# Altium integrated library Microchip PIC16 Part 1.IntLib: 1800 symbols (part 64 of 93)
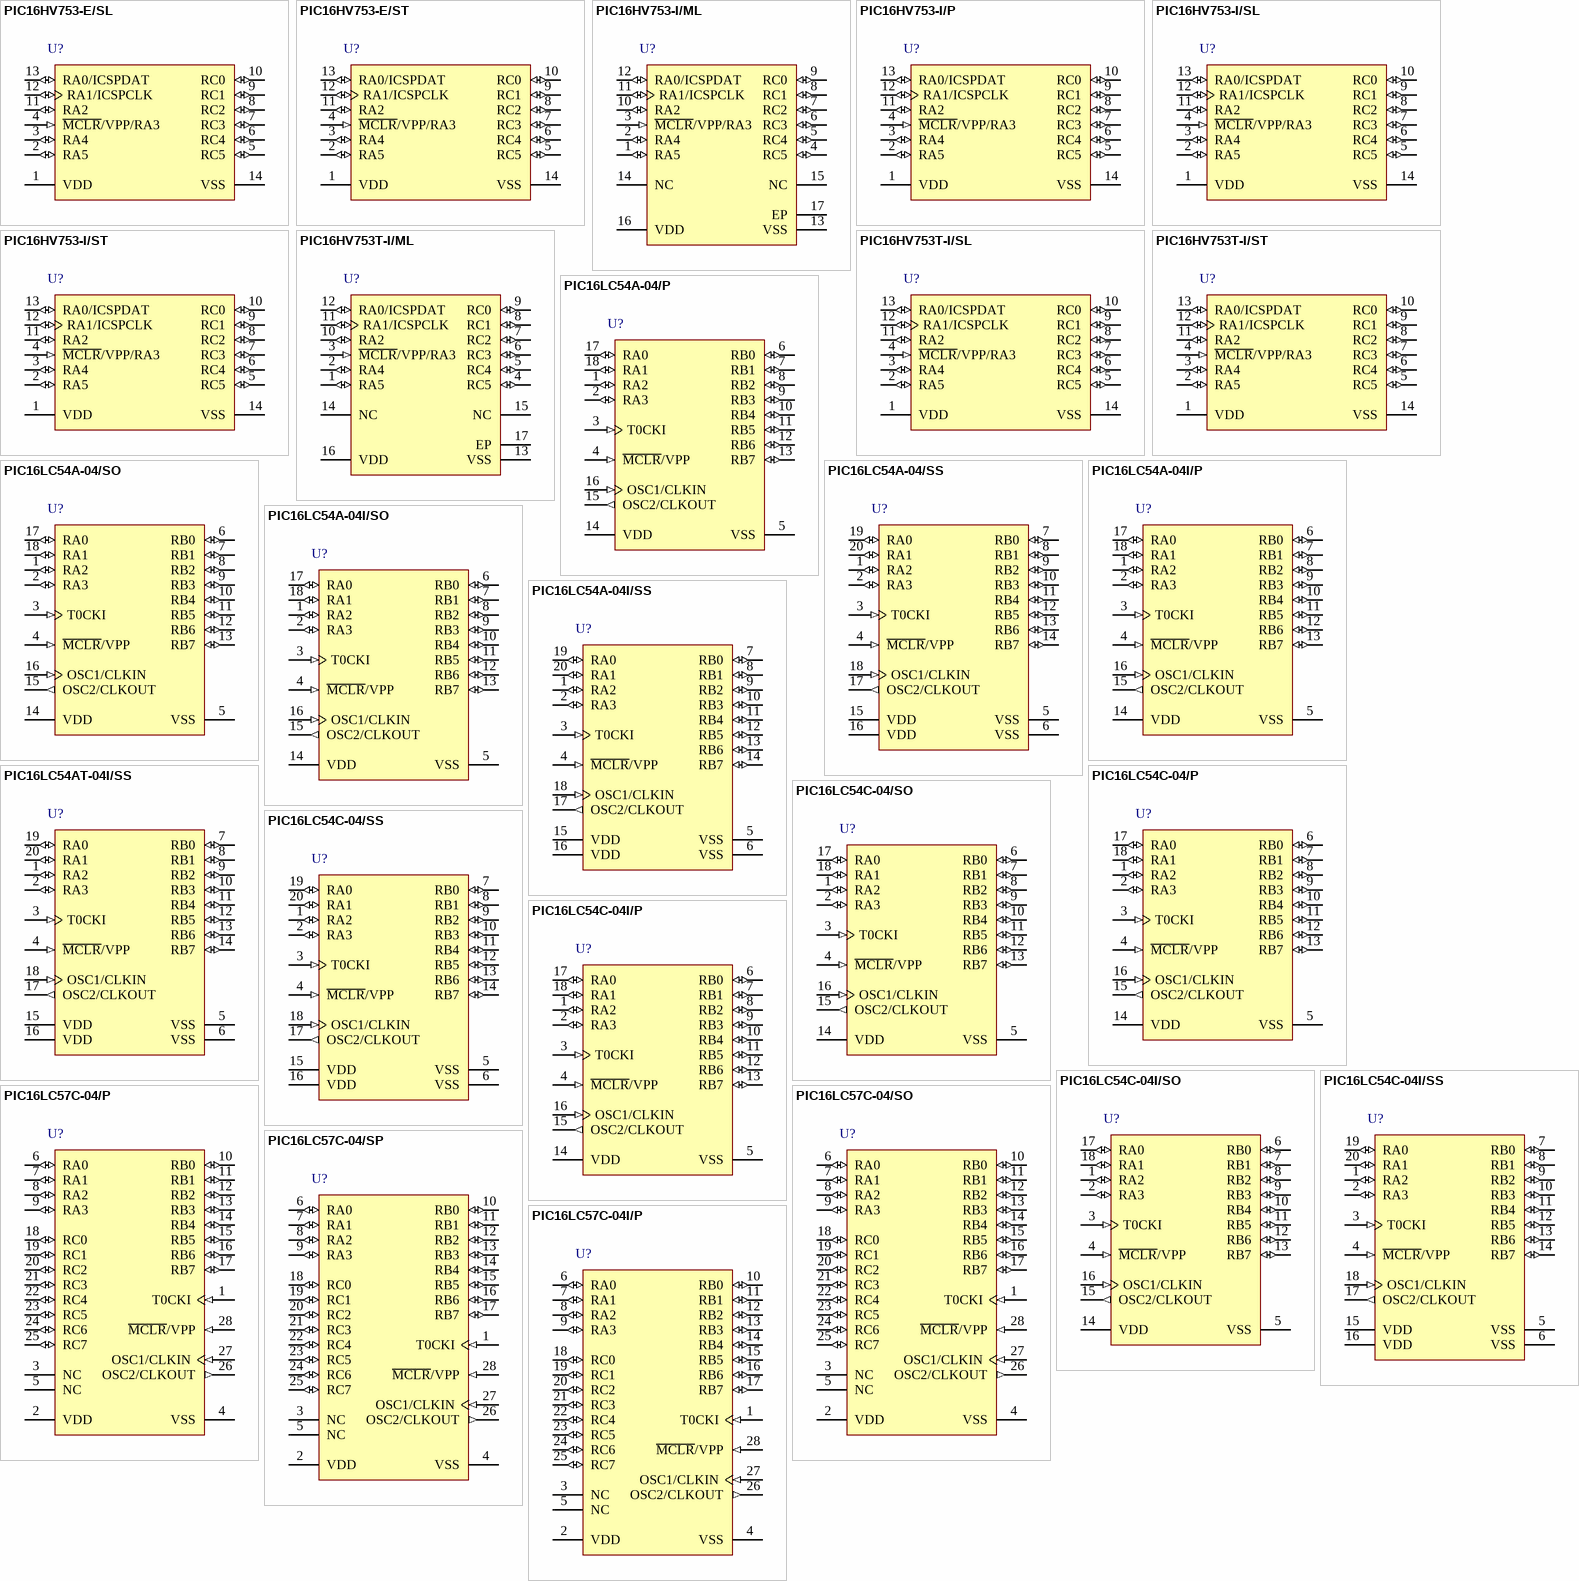
[diagram p162: symbols PIC16HV753-E/SL to PIC16LC57C-04I/P]

## PIC16LC54A-04/P
designator U?
EPROM / ROM-Based 8-Bit CMOS Microcontroller Series, 4 MHz, 12 I/O, 0 to 70 degC, 18-pin PDIP (P18), Tube; Manufacturer: Microchip; PartNumber: PIC16LC54A-04/P; Digital Communication: 0 -UART, 0 -A/E/USART, 0 -SPI, 0 -I2C; I/O Pins: 12; Max. CPU Speed MHz: 4; Memory Type: OTP; Operation Voltage Range: 3V - 6.25V; Program Memory KBytes: 0.75; Program Memory KWords: 0.5; RAM: 25; Timers: 1 - 8-bit, 0 - 16-bit, 0 - 32-bit; DatasheetVersion: Rev. KE; PackageVersion: C04-007B, 12/2012; PackageReference: PDIP-P18; PackageDescription: 18-Lead Plastic Dual In-Line, Row Spacing 7.62 mm, 22.86 x 6.6 mm Body, 2.54 mm Pitch; Supplier 1: Digi-Key; Supplier Part Number 1: PIC16LC54A-04/P-ND; Supplier 2: Mouser; Supplier Part Number 2: 579-PIC16LC54A-04/P; Packing: TUBE; Mounting Technology: Through Hole; ComponentLink1Description: Datasheet; ComponentLink1URL: http://ww1.microchip.com/downloads/en/DeviceDoc/30453E.pdf; ComponentLink2Description: Package Specification; ComponentLink2URL: http://www.microchip.com/stellent/groups/techpub_sg/documents/packagingspec/en012702.pdf; ComponentLink3Description: URL Link1; ComponentLink3URL: Product URL:http://www.microchip.com/datasheet/PIC16C54A
footprint MCHP-PDIP-P18 (DIP, 18-Leads, Body 22.83x6.604mm, Pitch 2.54mm)
pins: 1 RA2 (io) "Bi-directional I/O port", 2 RA3 (io) "Bi-directional I/O port", 3 T0CKI (in) "Clock input to Timer0. Must be tied to VSS or VDD, if not in use, to reduce current consumption.", 4 ~{MCLR}/VPP (in), 5 VSS (power) "Ground reference for logic and I/O pins.", 6 RB0 (io) "Bi-directional I/O port", 7 RB1 (io) "Bi-directional I/O port", 8 RB2 (io) "Bi-directional I/O port", 9 RB3 (io) "Bi-directional I/O port", 10 RB4 (io) "Bi-directional I/O port", 11 RB5 (io) "Bi-directional I/O port", 12 RB6 (io) "Bi-directional I/O port", 13 RB7 (io) "Bi-directional I/O port", 14 VDD (power) "Positive supply for logic and I/O pins.", 15 OSC2/CLKOUT (out), 16 OSC1/CLKIN (in), 17 RA0 (io) "Bi-directional I/O port", 18 RA1 (io) "Bi-directional I/O port"

## PIC16LC54A-04/SO
designator U?
EPROM / ROM-Based 8-Bit CMOS Microcontroller Series, 4 MHz, 12 I/O, 0 to 70 degC, 18-pin SOIC (SO18), Tube; Manufacturer: Microchip; PartNumber: PIC16LC54A-04/SO; Digital Communication: 0 -UART, 0 -A/E/USART, 0 -SPI, 0 -I2C; I/O Pins: 12; Max. CPU Speed MHz: 4; Memory Type: OTP; Operation Voltage Range: 3V - 6.25V; Program Memory KBytes: 0.75; Program Memory KWords: 0.5; RAM: 25; Timers: 1 - 8-bit, 0 - 16-bit, 0 - 32-bit; DatasheetVersion: Rev. KE; PackageVersion: C04-051C, 12/2012; PackageReference: SOIC-SO18; PackageDescription: 18-Lead Plastic Small Outline, 7.5 x 11.55 mm Body, 1.27 mm Pitch; Supplier 1: Digi-Key; Supplier Part Number 1: PIC16LC54A-04/SO-ND; Supplier 2: Mouser; Supplier Part Number 2: 579-PIC16LC54A-04/SO; Packing: TUBE; Mounting Technology: Surface Mount; ComponentLink1Description: Datasheet; ComponentLink1URL: http://ww1.microchip.com/downloads/en/DeviceDoc/30453E.pdf; ComponentLink2Description: Package Specification; ComponentLink2URL: http://www.microchip.com/stellent/groups/techpub_sg/documents/packagingspec/en012702.pdf; ComponentLink3Description: URL Link1; ComponentLink3URL: Product URL:http://www.microchip.com/datasheet/PIC16C54A
footprint MCHP-SOIC-SO18_N (SOIC, 18-Leads, Body 11.55x7.5mm, Pitch 1.27mm, IPC Medium Density)
footprint MCHP-SOIC-SO18_L (SOIC, 18-Leads, Body 11.55x7.5mm, Pitch 1.27mm, IPC High Density)
footprint MCHP-SOIC-SO18_M (SOIC, 18-Leads, Body 11.55x7.5mm, Pitch 1.27mm, IPC Low Density)
pins: 1 RA2 (io) "Bi-directional I/O port", 2 RA3 (io) "Bi-directional I/O port", 3 T0CKI (in) "Clock input to Timer0. Must be tied to VSS or VDD, if not in use, to reduce current consumption.", 4 ~{MCLR}/VPP (in), 5 VSS (power) "Ground reference for logic and I/O pins.", 6 RB0 (io) "Bi-directional I/O port", 7 RB1 (io) "Bi-directional I/O port", 8 RB2 (io) "Bi-directional I/O port", 9 RB3 (io) "Bi-directional I/O port", 10 RB4 (io) "Bi-directional I/O port", 11 RB5 (io) "Bi-directional I/O port", 12 RB6 (io) "Bi-directional I/O port", 13 RB7 (io) "Bi-directional I/O port", 14 VDD (power) "Positive supply for logic and I/O pins.", 15 OSC2/CLKOUT (out), 16 OSC1/CLKIN (in), 17 RA0 (io) "Bi-directional I/O port", 18 RA1 (io) "Bi-directional I/O port"

## PIC16LC54A-04/SS
designator U?
EPROM / ROM-Based 8-Bit CMOS Microcontroller Series, 4 MHz, 12 I/O, 0 to 70 degC, 20-pin SSOP-SS (20), Tube; Manufacturer: Microchip; PartNumber: PIC16LC54A-04/SS; Digital Communication: 0 -UART, 0 -A/E/USART, 0 -SPI, 0 -I2C; I/O Pins: 12; Max. CPU Speed MHz: 4; Memory Type: OTP; Operation Voltage Range: 3V - 6.25V; Program Memory KBytes: 0.75; Program Memory KWords: 0.5; RAM: 25; Timers: 1 - 8-bit, 0 - 16-bit, 0 - 32-bit; DatasheetVersion: Rev. KE; PackageVersion: C04-072B, 12/2012; PackageReference: SSOP-SS20; PackageDescription: 20-Lead Plastic Shrink Small Outline, 5.3 x 7.2 mm Body, 0.65 mm Pitch; Supplier 1: Digi-Key; Supplier Part Number 1: PIC16LC54A-04/SS-ND; Supplier 2: Mouser; Supplier Part Number 2: 579-PIC16LC54A-04/SS; Packing: TUBE; Mounting Technology: Surface Mount; ComponentLink1Description: Datasheet; ComponentLink1URL: http://ww1.microchip.com/downloads/en/DeviceDoc/30453E.pdf; ComponentLink2Description: Package Specification; ComponentLink2URL: http://www.microchip.com/stellent/groups/techpub_sg/documents/packagingspec/en012702.pdf; ComponentLink3Description: URL Link1; ComponentLink3URL: Product URL:http://www.microchip.com/datasheet/PIC16C54A
footprint MCHP-SSOP-SS20_N (SOP, 20-Leads, Body 7.2x5.3mm, Pitch 0.65mm, IPC Medium Density)
footprint MCHP-SSOP-SS20_L (SOP, 20-Leads, Body 7.2x5.3mm, Pitch 0.65mm, IPC High Density)
footprint MCHP-SSOP-SS20_M (SOP, 20-Leads, Body 7.2x5.3mm, Pitch 0.65mm, IPC Low Density)
pins: 1 RA2 (io) "Bi-directional I/O port", 2 RA3 (io) "Bi-directional I/O port", 3 T0CKI (in) "Clock input to Timer0. Must be tied to VSS or VDD, if not in use, to reduce current consumption.", 4 ~{MCLR}/VPP (in), 5 VSS (power) "Ground reference for logic and I/O pins.", 6 VSS (power) "Ground reference for logic and I/O pins.", 7 RB0 (io) "Bi-directional I/O port", 8 RB1 (io) "Bi-directional I/O port", 9 RB2 (io) "Bi-directional I/O port", 10 RB3 (io) "Bi-directional I/O port", 11 RB4 (io) "Bi-directional I/O port", 12 RB5 (io) "Bi-directional I/O port", 13 RB6 (io) "Bi-directional I/O port", 14 RB7 (io) "Bi-directional I/O port", 15 VDD (power) "Positive supply for logic and I/O pins.", 16 VDD (power) "Positive supply for logic and I/O pins.", 17 OSC2/CLKOUT (out), 18 OSC1/CLKIN (in), 19 RA0 (io) "Bi-directional I/O port", 20 RA1 (io) "Bi-directional I/O port"

## PIC16LC54A-04I/P
designator U?
EPROM / ROM-Based 8-Bit CMOS Microcontroller Series, 4 MHz, 12 I/O, -40 to 85 degC, 18-pin PDIP (P18), Tube; Manufacturer: Microchip; PartNumber: PIC16LC54A-04I/P; Digital Communication: 0 -UART, 0 -A/E/USART, 0 -SPI, 0 -I2C; I/O Pins: 12; Max. CPU Speed MHz: 4; Memory Type: OTP; Operation Voltage Range: 3V - 6.25V; Program Memory KBytes: 0.75; Program Memory KWords: 0.5; RAM: 25; Timers: 1 - 8-bit, 0 - 16-bit, 0 - 32-bit; DatasheetVersion: Rev. KE; PackageVersion: C04-007B, 12/2012; PackageReference: PDIP-P18; PackageDescription: 18-Lead Plastic Dual In-Line, Row Spacing 7.62 mm, 22.86 x 6.6 mm Body, 2.54 mm Pitch; Supplier 1: Digi-Key; Supplier Part Number 1: PIC16LC54A-04I/P-ND; Supplier 2: Newark; Supplier Part Number 2: 23C5166; Supplier 3: Mouser; Supplier Part Number 3: 579-PIC16LC54A-04I/P; Packing: TUBE; Mounting Technology: Through Hole; ComponentLink1Description: Datasheet; ComponentLink1URL: http://ww1.microchip.com/downloads/en/DeviceDoc/30453E.pdf; ComponentLink2Description: Package Specification; ComponentLink2URL: http://www.microchip.com/stellent/groups/techpub_sg/documents/packagingspec/en012702.pdf; ComponentLink3Description: URL Link1; ComponentLink3URL: Product URL:http://www.microchip.com/datasheet/PIC16C54A
footprint MCHP-PDIP-P18 (DIP, 18-Leads, Body 22.83x6.604mm, Pitch 2.54mm)
pins: 1 RA2 (io) "Bi-directional I/O port", 2 RA3 (io) "Bi-directional I/O port", 3 T0CKI (in) "Clock input to Timer0. Must be tied to VSS or VDD, if not in use, to reduce current consumption.", 4 ~{MCLR}/VPP (in), 5 VSS (power) "Ground reference for logic and I/O pins.", 6 RB0 (io) "Bi-directional I/O port", 7 RB1 (io) "Bi-directional I/O port", 8 RB2 (io) "Bi-directional I/O port", 9 RB3 (io) "Bi-directional I/O port", 10 RB4 (io) "Bi-directional I/O port", 11 RB5 (io) "Bi-directional I/O port", 12 RB6 (io) "Bi-directional I/O port", 13 RB7 (io) "Bi-directional I/O port", 14 VDD (power) "Positive supply for logic and I/O pins.", 15 OSC2/CLKOUT (out), 16 OSC1/CLKIN (in), 17 RA0 (io) "Bi-directional I/O port", 18 RA1 (io) "Bi-directional I/O port"

## PIC16LC54A-04I/SO
designator U?
EPROM / ROM-Based 8-Bit CMOS Microcontroller Series, 4 MHz, 12 I/O, -40 to 85 degC, 18-pin SOIC (SO18), Tube; Manufacturer: Microchip; PartNumber: PIC16LC54A-04I/SO; Digital Communication: 0 -UART, 0 -A/E/USART, 0 -SPI, 0 -I2C; I/O Pins: 12; Max. CPU Speed MHz: 4; Memory Type: OTP; Operation Voltage Range: 3V - 6.25V; Program Memory KBytes: 0.75; Program Memory KWords: 0.5; RAM: 25; Timers: 1 - 8-bit, 0 - 16-bit, 0 - 32-bit; DatasheetVersion: Rev. KE; PackageVersion: C04-051C, 12/2012; PackageReference: SOIC-SO18; PackageDescription: 18-Lead Plastic Small Outline, 7.5 x 11.55 mm Body, 1.27 mm Pitch; Supplier 1: Digi-Key; Supplier Part Number 1: PIC16LC54A-04I/SO-ND; Supplier 2: Mouser; Supplier Part Number 2: 579-16LC54A-04I/SO; Packing: TUBE; Mounting Technology: Surface Mount; ComponentLink1Description: Datasheet; ComponentLink1URL: http://ww1.microchip.com/downloads/en/DeviceDoc/30453E.pdf; ComponentLink2Description: Package Specification; ComponentLink2URL: http://www.microchip.com/stellent/groups/techpub_sg/documents/packagingspec/en012702.pdf; ComponentLink3Description: URL Link1; ComponentLink3URL: Product URL:http://www.microchip.com/datasheet/PIC16C54A
footprint MCHP-SOIC-SO18_N (SOIC, 18-Leads, Body 11.55x7.5mm, Pitch 1.27mm, IPC Medium Density)
footprint MCHP-SOIC-SO18_L (SOIC, 18-Leads, Body 11.55x7.5mm, Pitch 1.27mm, IPC High Density)
footprint MCHP-SOIC-SO18_M (SOIC, 18-Leads, Body 11.55x7.5mm, Pitch 1.27mm, IPC Low Density)
pins: 1 RA2 (io) "Bi-directional I/O port", 2 RA3 (io) "Bi-directional I/O port", 3 T0CKI (in) "Clock input to Timer0. Must be tied to VSS or VDD, if not in use, to reduce current consumption.", 4 ~{MCLR}/VPP (in), 5 VSS (power) "Ground reference for logic and I/O pins.", 6 RB0 (io) "Bi-directional I/O port", 7 RB1 (io) "Bi-directional I/O port", 8 RB2 (io) "Bi-directional I/O port", 9 RB3 (io) "Bi-directional I/O port", 10 RB4 (io) "Bi-directional I/O port", 11 RB5 (io) "Bi-directional I/O port", 12 RB6 (io) "Bi-directional I/O port", 13 RB7 (io) "Bi-directional I/O port", 14 VDD (power) "Positive supply for logic and I/O pins.", 15 OSC2/CLKOUT (out), 16 OSC1/CLKIN (in), 17 RA0 (io) "Bi-directional I/O port", 18 RA1 (io) "Bi-directional I/O port"

## PIC16LC54A-04I/SS
designator U?
EPROM / ROM-Based 8-Bit CMOS Microcontroller Series, 4 MHz, 12 I/O, -40 to 85 degC, 20-pin SSOP-SS (20), Tube; Manufacturer: Microchip; PartNumber: PIC16LC54A-04I/SS; Digital Communication: 0 -UART, 0 -A/E/USART, 0 -SPI, 0 -I2C; I/O Pins: 12; Max. CPU Speed MHz: 4; Memory Type: OTP; Operation Voltage Range: 3V - 6.25V; Program Memory KBytes: 0.75; Program Memory KWords: 0.5; RAM: 25; Timers: 1 - 8-bit, 0 - 16-bit, 0 - 32-bit; DatasheetVersion: Rev. KE; PackageVersion: C04-072B, 12/2012; PackageReference: SSOP-SS20; PackageDescription: 20-Lead Plastic Shrink Small Outline, 5.3 x 7.2 mm Body, 0.65 mm Pitch; Supplier 1: Digi-Key; Supplier Part Number 1: PIC16LC54A-04I/SS-ND; Supplier 2: Mouser; Supplier Part Number 2: 579-16LC54A-04I/SS; Packing: TUBE; Mounting Technology: Surface Mount; ComponentLink1Description: Datasheet; ComponentLink1URL: http://ww1.microchip.com/downloads/en/DeviceDoc/30453E.pdf; ComponentLink2Description: Package Specification; ComponentLink2URL: http://www.microchip.com/stellent/groups/techpub_sg/documents/packagingspec/en012702.pdf; ComponentLink3Description: URL Link1; ComponentLink3URL: Product URL:http://www.microchip.com/datasheet/PIC16C54A
footprint MCHP-SSOP-SS20_N (SOP, 20-Leads, Body 7.2x5.3mm, Pitch 0.65mm, IPC Medium Density)
footprint MCHP-SSOP-SS20_L (SOP, 20-Leads, Body 7.2x5.3mm, Pitch 0.65mm, IPC High Density)
footprint MCHP-SSOP-SS20_M (SOP, 20-Leads, Body 7.2x5.3mm, Pitch 0.65mm, IPC Low Density)
pins: 1 RA2 (io) "Bi-directional I/O port", 2 RA3 (io) "Bi-directional I/O port", 3 T0CKI (in) "Clock input to Timer0. Must be tied to VSS or VDD, if not in use, to reduce current consumption.", 4 ~{MCLR}/VPP (in), 5 VSS (power) "Ground reference for logic and I/O pins.", 6 VSS (power) "Ground reference for logic and I/O pins.", 7 RB0 (io) "Bi-directional I/O port", 8 RB1 (io) "Bi-directional I/O port", 9 RB2 (io) "Bi-directional I/O port", 10 RB3 (io) "Bi-directional I/O port", 11 RB4 (io) "Bi-directional I/O port", 12 RB5 (io) "Bi-directional I/O port", 13 RB6 (io) "Bi-directional I/O port", 14 RB7 (io) "Bi-directional I/O port", 15 VDD (power) "Positive supply for logic and I/O pins.", 16 VDD (power) "Positive supply for logic and I/O pins.", 17 OSC2/CLKOUT (out), 18 OSC1/CLKIN (in), 19 RA0 (io) "Bi-directional I/O port", 20 RA1 (io) "Bi-directional I/O port"

## PIC16LC54AT-04I/SS
designator U?
EPROM / ROM-Based 8-Bit CMOS Microcontroller Series, 4 MHz, 12 I/O, -40 to 85 degC, 20-pin SSOP-SS (20), Tape and Reel; Manufacturer: Microchip; PartNumber: PIC16LC54AT-04I/SS; Digital Communication: 0 -UART, 0 -A/E/USART, 0 -SPI, 0 -I2C; I/O Pins: 12; Max. CPU Speed MHz: 4; Memory Type: OTP; Operation Voltage Range: 3V - 6.25V; Packing: T/R; Program Memory KBytes: 0.75; Program Memory KWords: 0.5; RAM: 25; Timers: 1 - 8-bit, 0 - 16-bit, 0 - 32-bit; DatasheetVersion: Rev. KE; PackageVersion: C04-072B, 12/2012; PackageReference: SSOP-SS20; PackageDescription: 20-Lead Plastic Shrink Small Outline, 5.3 x 7.2 mm Body, 0.65 mm Pitch; Supplier 1: Digi-Key; Supplier Part Number 1: PIC16LC54AT-04ISS-ND; Supplier 2: Mouser; Supplier Part Number 2: 579-16LC54AT-04I/SS; Mounting Technology: Surface Mount; ComponentLink1Description: Datasheet; ComponentLink1URL: http://ww1.microchip.com/downloads/en/DeviceDoc/30453E.pdf; ComponentLink2Description: Package Specification; ComponentLink2URL: http://www.microchip.com/stellent/groups/techpub_sg/documents/packagingspec/en012702.pdf; ComponentLink3Description: URL Link1; ComponentLink3URL: Product URL:http://www.microchip.com/datasheet/PIC16C54A
footprint MCHP-SSOP-SS20_N (SOP, 20-Leads, Body 7.2x5.3mm, Pitch 0.65mm, IPC Medium Density)
footprint MCHP-SSOP-SS20_L (SOP, 20-Leads, Body 7.2x5.3mm, Pitch 0.65mm, IPC High Density)
footprint MCHP-SSOP-SS20_M (SOP, 20-Leads, Body 7.2x5.3mm, Pitch 0.65mm, IPC Low Density)
pins: 1 RA2 (io) "Bi-directional I/O port", 2 RA3 (io) "Bi-directional I/O port", 3 T0CKI (in) "Clock input to Timer0. Must be tied to VSS or VDD, if not in use, to reduce current consumption.", 4 ~{MCLR}/VPP (in), 5 VSS (power) "Ground reference for logic and I/O pins.", 6 VSS (power) "Ground reference for logic and I/O pins.", 7 RB0 (io) "Bi-directional I/O port", 8 RB1 (io) "Bi-directional I/O port", 9 RB2 (io) "Bi-directional I/O port", 10 RB3 (io) "Bi-directional I/O port", 11 RB4 (io) "Bi-directional I/O port", 12 RB5 (io) "Bi-directional I/O port", 13 RB6 (io) "Bi-directional I/O port", 14 RB7 (io) "Bi-directional I/O port", 15 VDD (power) "Positive supply for logic and I/O pins.", 16 VDD (power) "Positive supply for logic and I/O pins.", 17 OSC2/CLKOUT (out), 18 OSC1/CLKIN (in), 19 RA0 (io) "Bi-directional I/O port", 20 RA1 (io) "Bi-directional I/O port"

## PIC16LC54C-04/P
designator U?
EPROM / ROM-Based 8-Bit CMOS Microcontroller Series, 4 MHz, 12 I/O, 0 to 70 degC, 18-pin PDIP (P18), Tube; Manufacturer: Microchip; PartNumber: PIC16LC54C-04/P; Digital Communication: 0 -UART, 0 -A/E/USART, 0 -SPI, 0 -I2C; I/O Pins: 12; Max. CPU Speed MHz: 4; Memory Type: OTP; Operation Voltage Range: 2.5V - 5.5V; Program Memory KBytes: 0.75; Program Memory KWords: 0.5; RAM: 25; Timers: 1 - 8-bit; DatasheetVersion: Rev. KE; PackageVersion: C04-007B, 12/2012; PackageReference: PDIP-P18; PackageDescription: 18-Lead Plastic Dual In-Line, Row Spacing 7.62 mm, 22.86 x 6.6 mm Body, 2.54 mm Pitch; Supplier 1: Digi-Key; Supplier Part Number 1: PIC16LC54C-04/P-ND; Supplier 2: Farnell; Supplier Part Number 2: 1084284; Supplier 3: Mouser; Supplier Part Number 3: 579-PIC16LC54C-04/P; Packing: TUBE; Mounting Technology: Through Hole; ComponentLink1Description: Datasheet; ComponentLink1URL: http://ww1.microchip.com/downloads/en/DeviceDoc/30453E.pdf; ComponentLink2Description: Package Specification; ComponentLink2URL: http://www.microchip.com/stellent/groups/techpub_sg/documents/packagingspec/en012702.pdf; ComponentLink3Description: URL Link1; ComponentLink3URL: Product URL:http://www.microchip.com/datasheet/PIC16C54C
footprint MCHP-PDIP-P18 (DIP, 18-Leads, Body 22.83x6.604mm, Pitch 2.54mm)
pins: 1 RA2 (io) "Bi-directional I/O port", 2 RA3 (io) "Bi-directional I/O port", 3 T0CKI (in) "Clock input to Timer0. Must be tied to VSS or VDD, if not in use, to reduce current consumption.", 4 ~{MCLR}/VPP (in), 5 VSS (power) "Ground reference for logic and I/O pins.", 6 RB0 (io) "Bi-directional I/O port", 7 RB1 (io) "Bi-directional I/O port", 8 RB2 (io) "Bi-directional I/O port", 9 RB3 (io) "Bi-directional I/O port", 10 RB4 (io) "Bi-directional I/O port", 11 RB5 (io) "Bi-directional I/O port", 12 RB6 (io) "Bi-directional I/O port", 13 RB7 (io) "Bi-directional I/O port", 14 VDD (power) "Positive supply for logic and I/O pins.", 15 OSC2/CLKOUT (out), 16 OSC1/CLKIN (in), 17 RA0 (io) "Bi-directional I/O port", 18 RA1 (io) "Bi-directional I/O port"

## PIC16LC54C-04/SO
designator U?
EPROM / ROM-Based 8-Bit CMOS Microcontroller Series, 4 MHz, 12 I/O, 0 to 70 degC, 18-pin SOIC (SO18), Tube; Manufacturer: Microchip; PartNumber: PIC16LC54C-04/SO; Digital Communication: 0 -UART, 0 -A/E/USART, 0 -SPI, 0 -I2C; I/O Pins: 12; Max. CPU Speed MHz: 4; Memory Type: OTP; Operation Voltage Range: 2.5V - 5.5V; Program Memory KBytes: 0.75; Program Memory KWords: 0.5; RAM: 25; Timers: 1 - 8-bit; DatasheetVersion: Rev. KE; PackageVersion: C04-051C, 12/2012; PackageReference: SOIC-SO18; PackageDescription: 18-Lead Plastic Small Outline, 7.5 x 11.55 mm Body, 1.27 mm Pitch; Supplier 1: Digi-Key; Supplier Part Number 1: PIC16LC54C-04/SO-ND; Supplier 2: Mouser; Supplier Part Number 2: 579-PIC16LC54C-04/SO; Packing: TUBE; Mounting Technology: Surface Mount; ComponentLink1Description: Datasheet; ComponentLink1URL: http://ww1.microchip.com/downloads/en/DeviceDoc/30453E.pdf; ComponentLink2Description: Package Specification; ComponentLink2URL: http://www.microchip.com/stellent/groups/techpub_sg/documents/packagingspec/en012702.pdf; ComponentLink3Description: URL Link1; ComponentLink3URL: Product URL:http://www.microchip.com/datasheet/PIC16C54C
footprint MCHP-SOIC-SO18_N (SOIC, 18-Leads, Body 11.55x7.5mm, Pitch 1.27mm, IPC Medium Density)
footprint MCHP-SOIC-SO18_L (SOIC, 18-Leads, Body 11.55x7.5mm, Pitch 1.27mm, IPC High Density)
footprint MCHP-SOIC-SO18_M (SOIC, 18-Leads, Body 11.55x7.5mm, Pitch 1.27mm, IPC Low Density)
pins: 1 RA2 (io) "Bi-directional I/O port", 2 RA3 (io) "Bi-directional I/O port", 3 T0CKI (in) "Clock input to Timer0. Must be tied to VSS or VDD, if not in use, to reduce current consumption.", 4 ~{MCLR}/VPP (in), 5 VSS (power) "Ground reference for logic and I/O pins.", 6 RB0 (io) "Bi-directional I/O port", 7 RB1 (io) "Bi-directional I/O port", 8 RB2 (io) "Bi-directional I/O port", 9 RB3 (io) "Bi-directional I/O port", 10 RB4 (io) "Bi-directional I/O port", 11 RB5 (io) "Bi-directional I/O port", 12 RB6 (io) "Bi-directional I/O port", 13 RB7 (io) "Bi-directional I/O port", 14 VDD (power) "Positive supply for logic and I/O pins.", 15 OSC2/CLKOUT (out), 16 OSC1/CLKIN (in), 17 RA0 (io) "Bi-directional I/O port", 18 RA1 (io) "Bi-directional I/O port"

## PIC16LC54C-04/SS
designator U?
EPROM / ROM-Based 8-Bit CMOS Microcontroller Series, 4 MHz, 12 I/O, 0 to 70 degC, 20-pin SSOP-SS (20), Tube; Manufacturer: Microchip; PartNumber: PIC16LC54C-04/SS; Digital Communication: 0 -UART, 0 -A/E/USART, 0 -SPI, 0 -I2C; I/O Pins: 12; Max. CPU Speed MHz: 4; Memory Type: OTP; Operation Voltage Range: 2.5V - 5.5V; Program Memory KBytes: 0.75; Program Memory KWords: 0.5; RAM: 25; Timers: 1 - 8-bit; DatasheetVersion: Rev. KE; PackageVersion: C04-072B, 12/2012; PackageReference: SSOP-SS20; PackageDescription: 20-Lead Plastic Shrink Small Outline, 5.3 x 7.2 mm Body, 0.65 mm Pitch; Supplier 1: Digi-Key; Supplier Part Number 1: PIC16LC54C-04/SS-ND; Supplier 2: Mouser; Supplier Part Number 2: 579-PIC16LC54C-04/SS; Packing: TUBE; Mounting Technology: Surface Mount; ComponentLink1Description: Datasheet; ComponentLink1URL: http://ww1.microchip.com/downloads/en/DeviceDoc/30453E.pdf; ComponentLink2Description: Package Specification; ComponentLink2URL: http://www.microchip.com/stellent/groups/techpub_sg/documents/packagingspec/en012702.pdf; ComponentLink3Description: URL Link1; ComponentLink3URL: Product URL:http://www.microchip.com/datasheet/PIC16C54C
footprint MCHP-SSOP-SS20_N (SOP, 20-Leads, Body 7.2x5.3mm, Pitch 0.65mm, IPC Medium Density)
footprint MCHP-SSOP-SS20_L (SOP, 20-Leads, Body 7.2x5.3mm, Pitch 0.65mm, IPC High Density)
footprint MCHP-SSOP-SS20_M (SOP, 20-Leads, Body 7.2x5.3mm, Pitch 0.65mm, IPC Low Density)
pins: 1 RA2 (io) "Bi-directional I/O port", 2 RA3 (io) "Bi-directional I/O port", 3 T0CKI (in) "Clock input to Timer0. Must be tied to VSS or VDD, if not in use, to reduce current consumption.", 4 ~{MCLR}/VPP (in), 5 VSS (power) "Ground reference for logic and I/O pins.", 6 VSS (power) "Ground reference for logic and I/O pins.", 7 RB0 (io) "Bi-directional I/O port", 8 RB1 (io) "Bi-directional I/O port", 9 RB2 (io) "Bi-directional I/O port", 10 RB3 (io) "Bi-directional I/O port", 11 RB4 (io) "Bi-directional I/O port", 12 RB5 (io) "Bi-directional I/O port", 13 RB6 (io) "Bi-directional I/O port", 14 RB7 (io) "Bi-directional I/O port", 15 VDD (power) "Positive supply for logic and I/O pins.", 16 VDD (power) "Positive supply for logic and I/O pins.", 17 OSC2/CLKOUT (out), 18 OSC1/CLKIN (in), 19 RA0 (io) "Bi-directional I/O port", 20 RA1 (io) "Bi-directional I/O port"

## PIC16LC54C-04I/P
designator U?
EPROM / ROM-Based 8-Bit CMOS Microcontroller Series, 4 MHz, 12 I/O, -40 to 85 degC, 18-pin PDIP (P18), Tube; Manufacturer: Microchip; PartNumber: PIC16LC54C-04I/P; Digital Communication: 0 -UART, 0 -A/E/USART, 0 -SPI, 0 -I2C; I/O Pins: 12; Max. CPU Speed MHz: 4; Memory Type: OTP; Operation Voltage Range: 2.5V - 5.5V; Program Memory KBytes: 0.75; Program Memory KWords: 0.5; RAM: 25; Timers: 1 - 8-bit; DatasheetVersion: Rev. KE; PackageVersion: C04-007B, 12/2012; PackageReference: PDIP-P18; PackageDescription: 18-Lead Plastic Dual In-Line, Row Spacing 7.62 mm, 22.86 x 6.6 mm Body, 2.54 mm Pitch; Supplier 1: Digi-Key; Supplier Part Number 1: PIC16LC54C-04I/P-ND; Supplier 2: Mouser; Supplier Part Number 2: 579-PIC16LC54C-04I/P; Packing: TUBE; Mounting Technology: Through Hole; ComponentLink1Description: Datasheet; ComponentLink1URL: http://ww1.microchip.com/downloads/en/DeviceDoc/30453E.pdf; ComponentLink2Description: Package Specification; ComponentLink2URL: http://www.microchip.com/stellent/groups/techpub_sg/documents/packagingspec/en012702.pdf; ComponentLink3Description: URL Link1; ComponentLink3URL: Product URL:http://www.microchip.com/datasheet/PIC16C54C
footprint MCHP-PDIP-P18 (DIP, 18-Leads, Body 22.83x6.604mm, Pitch 2.54mm)
pins: 1 RA2 (io) "Bi-directional I/O port", 2 RA3 (io) "Bi-directional I/O port", 3 T0CKI (in) "Clock input to Timer0. Must be tied to VSS or VDD, if not in use, to reduce current consumption.", 4 ~{MCLR}/VPP (in), 5 VSS (power) "Ground reference for logic and I/O pins.", 6 RB0 (io) "Bi-directional I/O port", 7 RB1 (io) "Bi-directional I/O port", 8 RB2 (io) "Bi-directional I/O port", 9 RB3 (io) "Bi-directional I/O port", 10 RB4 (io) "Bi-directional I/O port", 11 RB5 (io) "Bi-directional I/O port", 12 RB6 (io) "Bi-directional I/O port", 13 RB7 (io) "Bi-directional I/O port", 14 VDD (power) "Positive supply for logic and I/O pins.", 15 OSC2/CLKOUT (out), 16 OSC1/CLKIN (in), 17 RA0 (io) "Bi-directional I/O port", 18 RA1 (io) "Bi-directional I/O port"

## PIC16LC54C-04I/SO
designator U?
EPROM / ROM-Based 8-Bit CMOS Microcontroller Series, 4 MHz, 12 I/O, -40 to 85 degC, 18-pin SOIC (SO18), Tube; Manufacturer: Microchip; PartNumber: PIC16LC54C-04I/SO; Digital Communication: 0 -UART, 0 -A/E/USART, 0 -SPI, 0 -I2C; I/O Pins: 12; Max. CPU Speed MHz: 4; Memory Type: OTP; Operation Voltage Range: 2.5V - 5.5V; Program Memory KBytes: 0.75; Program Memory KWords: 0.5; RAM: 25; Timers: 1 - 8-bit; DatasheetVersion: Rev. KE; PackageVersion: C04-051C, 12/2012; PackageReference: SOIC-SO18; PackageDescription: 18-Lead Plastic Small Outline, 7.5 x 11.55 mm Body, 1.27 mm Pitch; Supplier 1: Digi-Key; Supplier Part Number 1: PIC16LC54C-04I/SO-ND; Supplier 2: Mouser; Supplier Part Number 2: 579-16LC54C-04I/SO; Packing: TUBE; Mounting Technology: Surface Mount; ComponentLink1Description: Datasheet; ComponentLink1URL: http://ww1.microchip.com/downloads/en/DeviceDoc/30453E.pdf; ComponentLink2Description: Package Specification; ComponentLink2URL: http://www.microchip.com/stellent/groups/techpub_sg/documents/packagingspec/en012702.pdf; ComponentLink3Description: URL Link1; ComponentLink3URL: Product URL:http://www.microchip.com/datasheet/PIC16C54C
footprint MCHP-SOIC-SO18_N (SOIC, 18-Leads, Body 11.55x7.5mm, Pitch 1.27mm, IPC Medium Density)
footprint MCHP-SOIC-SO18_L (SOIC, 18-Leads, Body 11.55x7.5mm, Pitch 1.27mm, IPC High Density)
footprint MCHP-SOIC-SO18_M (SOIC, 18-Leads, Body 11.55x7.5mm, Pitch 1.27mm, IPC Low Density)
pins: 1 RA2 (io) "Bi-directional I/O port", 2 RA3 (io) "Bi-directional I/O port", 3 T0CKI (in) "Clock input to Timer0. Must be tied to VSS or VDD, if not in use, to reduce current consumption.", 4 ~{MCLR}/VPP (in), 5 VSS (power) "Ground reference for logic and I/O pins.", 6 RB0 (io) "Bi-directional I/O port", 7 RB1 (io) "Bi-directional I/O port", 8 RB2 (io) "Bi-directional I/O port", 9 RB3 (io) "Bi-directional I/O port", 10 RB4 (io) "Bi-directional I/O port", 11 RB5 (io) "Bi-directional I/O port", 12 RB6 (io) "Bi-directional I/O port", 13 RB7 (io) "Bi-directional I/O port", 14 VDD (power) "Positive supply for logic and I/O pins.", 15 OSC2/CLKOUT (out), 16 OSC1/CLKIN (in), 17 RA0 (io) "Bi-directional I/O port", 18 RA1 (io) "Bi-directional I/O port"

## PIC16LC54C-04I/SS
designator U?
EPROM / ROM-Based 8-Bit CMOS Microcontroller Series, 4 MHz, 12 I/O, -40 to 85 degC, 20-pin SSOP-SS (20), Tube; Manufacturer: Microchip; PartNumber: PIC16LC54C-04I/SS; Digital Communication: 0 -UART, 0 -A/E/USART, 0 -SPI, 0 -I2C; I/O Pins: 12; Max. CPU Speed MHz: 4; Memory Type: OTP; Operation Voltage Range: 2.5V - 5.5V; Program Memory KBytes: 0.75; Program Memory KWords: 0.5; RAM: 25; Timers: 1 - 8-bit; DatasheetVersion: Rev. KE; PackageVersion: C04-072B, 12/2012; PackageReference: SSOP-SS20; PackageDescription: 20-Lead Plastic Shrink Small Outline, 5.3 x 7.2 mm Body, 0.65 mm Pitch; Supplier 1: Digi-Key; Supplier Part Number 1: PIC16LC54C-04I/SS-ND; Supplier 2: Mouser; Supplier Part Number 2: 579-16LC54C-04I/SS; Packing: TUBE; Mounting Technology: Surface Mount; ComponentLink1Description: Datasheet; ComponentLink1URL: http://ww1.microchip.com/downloads/en/DeviceDoc/30453E.pdf; ComponentLink2Description: Package Specification; ComponentLink2URL: http://www.microchip.com/stellent/groups/techpub_sg/documents/packagingspec/en012702.pdf; ComponentLink3Description: URL Link1; ComponentLink3URL: Product URL:http://www.microchip.com/datasheet/PIC16C54C
footprint MCHP-SSOP-SS20_N (SOP, 20-Leads, Body 7.2x5.3mm, Pitch 0.65mm, IPC Medium Density)
footprint MCHP-SSOP-SS20_L (SOP, 20-Leads, Body 7.2x5.3mm, Pitch 0.65mm, IPC High Density)
footprint MCHP-SSOP-SS20_M (SOP, 20-Leads, Body 7.2x5.3mm, Pitch 0.65mm, IPC Low Density)
pins: 1 RA2 (io) "Bi-directional I/O port", 2 RA3 (io) "Bi-directional I/O port", 3 T0CKI (in) "Clock input to Timer0. Must be tied to VSS or VDD, if not in use, to reduce current consumption.", 4 ~{MCLR}/VPP (in), 5 VSS (power) "Ground reference for logic and I/O pins.", 6 VSS (power) "Ground reference for logic and I/O pins.", 7 RB0 (io) "Bi-directional I/O port", 8 RB1 (io) "Bi-directional I/O port", 9 RB2 (io) "Bi-directional I/O port", 10 RB3 (io) "Bi-directional I/O port", 11 RB4 (io) "Bi-directional I/O port", 12 RB5 (io) "Bi-directional I/O port", 13 RB6 (io) "Bi-directional I/O port", 14 RB7 (io) "Bi-directional I/O port", 15 VDD (power) "Positive supply for logic and I/O pins.", 16 VDD (power) "Positive supply for logic and I/O pins.", 17 OSC2/CLKOUT (out), 18 OSC1/CLKIN (in), 19 RA0 (io) "Bi-directional I/O port", 20 RA1 (io) "Bi-directional I/O port"

## PIC16LC57C-04/P
designator U?
EPROM / ROM-Based 8-Bit CMOS Microcontroller Series, 4 MHz, 20 I/O, 0 to 70 degC, 28-pin PDIP (P28), Tube; Manufacturer: Microchip; PartNumber: PIC16LC57C-04/P; Digital Communication: 0 -UART, 0 -A/E/USART, 0 -SPI, 0 -I2C; I/O Pins: 20; Max. CPU Speed MHz: 4; Memory Type: OTP; Operation Voltage Range: 2.5V - 5.5V; Program Memory KBytes: 3; Program Memory KWords: 2; RAM: 72; Timers: 1 - 8-bit, 0 - 16-bit, 0 - 32-bit; DatasheetVersion: Rev. KE; PackageVersion: C04-081B, 04/2013; PackageReference: PDIP-P28; PackageDescription: 28-Lead Plastic Dual In-Line, Body 13.53 x 37.4 mm, Pitch 2.54 mm; Supplier 1: Digi-Key; Supplier Part Number 1: PIC16LC57C-04/P-ND; Supplier 2: Mouser; Supplier Part Number 2: 579-PIC16LC57C-04/P; Packing: TUBE; Mounting Technology: Through Hole; ComponentLink1Description: Datasheet; ComponentLink1URL: http://ww1.microchip.com/downloads/en/DeviceDoc/30453E.pdf; ComponentLink2Description: Package Specification; ComponentLink2URL: http://www.microchip.com/stellent/groups/techpub_sg/documents/packagingspec/en012702.pdf; ComponentLink3Description: URL Link1; ComponentLink3URL: Product URL:http://www.microchip.com/datasheet/PIC16C57C
footprint MCHP-PDIP-P28 (DIP, 28-Leads, Body 37.4x13.53mm, Pitch 2.54mm)
pins: 1 T0CKI (in) "Clock input to Timer0. Must be tied to VSS or VDD, if not in use, to reduce current consumption.", 2 VDD (power) "Positive supply for logic and I/O pins.", 3 NC "Unused, do not connect.", 4 VSS (power) "Ground reference for logic and I/O pins.", 5 NC "Unused, do not connect.", 6 RA0 (io) "Bi-directional I/O port", 7 RA1 (io) "Bi-directional I/O port", 8 RA2 (io) "Bi-directional I/O port", 9 RA3 (io) "Bi-directional I/O port", 10 RB0 (io) "Bi-directional I/O port", 11 RB1 (io) "Bi-directional I/O port", 12 RB2 (io) "Bi-directional I/O port", 13 RB3 (io) "Bi-directional I/O port", 14 RB4 (io) "Bi-directional I/O port", 15 RB5 (io) "Bi-directional I/O port", 16 RB6 (io) "Bi-directional I/O port", 17 RB7 (io) "Bi-directional I/O port", 18 RC0 (io) "Bi-directional I/O port", 19 RC1 (io) "Bi-directional I/O port", 20 RC2 (io) "Bi-directional I/O port", 21 RC3 (io) "Bi-directional I/O port", 22 RC4 (io) "Bi-directional I/O port", 23 RC5 (io) "Bi-directional I/O port", 24 RC6 (io) "Bi-directional I/O port", 25 RC7 (io) "Bi-directional I/O port", 26 OSC2/CLKOUT (out), 27 OSC1/CLKIN (in), 28 ~{MCLR}/VPP (in)

## PIC16LC57C-04/SO
designator U?
EPROM / ROM-Based 8-Bit CMOS Microcontroller Series, 4 MHz, 20 I/O, 0 to 70 degC, 28-pin SOIC (SO28), Tube; Manufacturer: Microchip; PartNumber: PIC16LC57C-04/SO; Digital Communication: 0 -UART, 0 -A/E/USART, 0 -SPI, 0 -I2C; I/O Pins: 20; Max. CPU Speed MHz: 4; Memory Type: OTP; Operation Voltage Range: 2.5V - 5.5V; Program Memory KBytes: 3; Program Memory KWords: 2; RAM: 72; Timers: 1 - 8-bit, 0 - 16-bit, 0 - 32-bit; DatasheetVersion: Rev. KE; PackageVersion: C04-052C, 12/2012; PackageReference: SOIC-SO28; PackageDescription: 28-Lead Plastic Small Outline, 17.9 x 7.5 mm Body, 1.27 mm Pitch; Supplier 1: Digi-Key; Supplier Part Number 1: PIC16LC57C-04/SO-ND; Supplier 2: Mouser; Supplier Part Number 2: 579-PIC16LC57C-04/SO; Packing: TUBE; Mounting Technology: Surface Mount; ComponentLink1Description: Datasheet; ComponentLink1URL: http://ww1.microchip.com/downloads/en/DeviceDoc/30453E.pdf; ComponentLink2Description: Package Specification; ComponentLink2URL: http://www.microchip.com/stellent/groups/techpub_sg/documents/packagingspec/en012702.pdf; ComponentLink3Description: URL Link1; ComponentLink3URL: Product URL:http://www.microchip.com/datasheet/PIC16C57C
footprint MCHP-SOIC-SO28_N (SOIC, 28-Leads, Body 17.9x7.5mm, Pitch 1.27mm, IPC Medium Density)
footprint MCHP-SOIC-SO28_L (SOIC, 28-Leads, Body 17.9x7.5mm, Pitch 1.27mm, IPC High Density)
footprint MCHP-SOIC-SO28_M (SOIC, 28-Leads, Body 17.9x7.5mm, Pitch 1.27mm, IPC Low Density)
pins: 1 T0CKI (in) "Clock input to Timer0. Must be tied to VSS or VDD, if not in use, to reduce current consumption.", 2 VDD (power) "Positive supply for logic and I/O pins.", 3 NC "Unused, do not connect.", 4 VSS (power) "Ground reference for logic and I/O pins.", 5 NC "Unused, do not connect.", 6 RA0 (io) "Bi-directional I/O port", 7 RA1 (io) "Bi-directional I/O port", 8 RA2 (io) "Bi-directional I/O port", 9 RA3 (io) "Bi-directional I/O port", 10 RB0 (io) "Bi-directional I/O port", 11 RB1 (io) "Bi-directional I/O port", 12 RB2 (io) "Bi-directional I/O port", 13 RB3 (io) "Bi-directional I/O port", 14 RB4 (io) "Bi-directional I/O port", 15 RB5 (io) "Bi-directional I/O port", 16 RB6 (io) "Bi-directional I/O port", 17 RB7 (io) "Bi-directional I/O port", 18 RC0 (io) "Bi-directional I/O port", 19 RC1 (io) "Bi-directional I/O port", 20 RC2 (io) "Bi-directional I/O port", 21 RC3 (io) "Bi-directional I/O port", 22 RC4 (io) "Bi-directional I/O port", 23 RC5 (io) "Bi-directional I/O port", 24 RC6 (io) "Bi-directional I/O port", 25 RC7 (io) "Bi-directional I/O port", 26 OSC2/CLKOUT (out), 27 OSC1/CLKIN (in), 28 ~{MCLR}/VPP (in)

## PIC16LC57C-04/SP
designator U?
EPROM / ROM-Based 8-Bit CMOS Microcontroller Series, 4 MHz, 20 I/O, 0 to 70 degC, 28-pin SPDIP (SP28), Tube; Manufacturer: Microchip; PartNumber: PIC16LC57C-04/SP; Digital Communication: 0 -UART, 0 -A/E/USART, 0 -SPI, 0 -I2C; I/O Pins: 20; Max. CPU Speed MHz: 4; Memory Type: OTP; Operation Voltage Range: 2.5V - 5.5V; Program Memory KBytes: 3; Program Memory KWords: 2; RAM: 72; Timers: 1 - 8-bit, 0 - 16-bit, 0 - 32-bit; DatasheetVersion: Rev. KE; PackageVersion: C04-070B, 12/2012; PackageReference: SPDIP-SP28; PackageDescription: 28-Lead Plastic Dual In-Line, 34.86 x 6.79 mm Body, 2.54 mm Pitch; Supplier 1: Digi-Key; Supplier Part Number 1: PIC16LC57C-04/SP-ND; Supplier 2: Mouser; Supplier Part Number 2: 579-PIC16LC57C-04/SP; Packing: TUBE; Mounting Technology: Through Hole; ComponentLink1Description: Datasheet; ComponentLink1URL: http://ww1.microchip.com/downloads/en/DeviceDoc/30453E.pdf; ComponentLink2Description: Package Specification; ComponentLink2URL: http://www.microchip.com/stellent/groups/techpub_sg/documents/packagingspec/en012702.pdf; ComponentLink3Description: URL Link1; ComponentLink3URL: Product URL:http://www.microchip.com/datasheet/PIC16C57C
footprint MCHP-SPDIP-SP28 (DIP, 28-Leads, Body 34.86x6.79mm, Pitch 2.54mm)
pins: 1 T0CKI (in) "Clock input to Timer0. Must be tied to VSS or VDD, if not in use, to reduce current consumption.", 2 VDD (power) "Positive supply for logic and I/O pins.", 3 NC "Unused, do not connect.", 4 VSS (power) "Ground reference for logic and I/O pins.", 5 NC "Unused, do not connect.", 6 RA0 (io) "Bi-directional I/O port", 7 RA1 (io) "Bi-directional I/O port", 8 RA2 (io) "Bi-directional I/O port", 9 RA3 (io) "Bi-directional I/O port", 10 RB0 (io) "Bi-directional I/O port", 11 RB1 (io) "Bi-directional I/O port", 12 RB2 (io) "Bi-directional I/O port", 13 RB3 (io) "Bi-directional I/O port", 14 RB4 (io) "Bi-directional I/O port", 15 RB5 (io) "Bi-directional I/O port", 16 RB6 (io) "Bi-directional I/O port", 17 RB7 (io) "Bi-directional I/O port", 18 RC0 (io) "Bi-directional I/O port", 19 RC1 (io) "Bi-directional I/O port", 20 RC2 (io) "Bi-directional I/O port", 21 RC3 (io) "Bi-directional I/O port", 22 RC4 (io) "Bi-directional I/O port", 23 RC5 (io) "Bi-directional I/O port", 24 RC6 (io) "Bi-directional I/O port", 25 RC7 (io) "Bi-directional I/O port", 26 OSC2/CLKOUT (out), 27 OSC1/CLKIN (in), 28 ~{MCLR}/VPP (in)

## PIC16LC57C-04I/P
designator U?
EPROM / ROM-Based 8-Bit CMOS Microcontroller Series, 4 MHz, 20 I/O, -40 to 85 degC, 28-pin PDIP (P28), Tube; Manufacturer: Microchip; PartNumber: PIC16LC57C-04I/P; Digital Communication: 0 -UART, 0 -A/E/USART, 0 -SPI, 0 -I2C; I/O Pins: 20; Max. CPU Speed MHz: 4; Memory Type: OTP; Operation Voltage Range: 2.5V - 5.5V; Program Memory KBytes: 3; Program Memory KWords: 2; RAM: 72; Timers: 1 - 8-bit, 0 - 16-bit, 0 - 32-bit; DatasheetVersion: Rev. KE; PackageVersion: C04-081B, 04/2013; PackageReference: PDIP-P28; PackageDescription: 28-Lead Plastic Dual In-Line, Body 13.53 x 37.4 mm, Pitch 2.54 mm; Supplier 1: Digi-Key; Supplier Part Number 1: PIC16LC57C-04I/P-ND; Supplier 2: Mouser; Supplier Part Number 2: 579-PIC16LC57C-04I/P; Packing: TUBE; Mounting Technology: Through Hole; ComponentLink1Description: Datasheet; ComponentLink1URL: http://ww1.microchip.com/downloads/en/DeviceDoc/30453E.pdf; ComponentLink2Description: Package Specification; ComponentLink2URL: http://www.microchip.com/stellent/groups/techpub_sg/documents/packagingspec/en012702.pdf; ComponentLink3Description: URL Link1; ComponentLink3URL: Product URL:http://www.microchip.com/datasheet/PIC16C57C
footprint MCHP-PDIP-P28 (DIP, 28-Leads, Body 37.4x13.53mm, Pitch 2.54mm)
pins: 1 T0CKI (in) "Clock input to Timer0. Must be tied to VSS or VDD, if not in use, to reduce current consumption.", 2 VDD (power) "Positive supply for logic and I/O pins.", 3 NC "Unused, do not connect.", 4 VSS (power) "Ground reference for logic and I/O pins.", 5 NC "Unused, do not connect.", 6 RA0 (io) "Bi-directional I/O port", 7 RA1 (io) "Bi-directional I/O port", 8 RA2 (io) "Bi-directional I/O port", 9 RA3 (io) "Bi-directional I/O port", 10 RB0 (io) "Bi-directional I/O port", 11 RB1 (io) "Bi-directional I/O port", 12 RB2 (io) "Bi-directional I/O port", 13 RB3 (io) "Bi-directional I/O port", 14 RB4 (io) "Bi-directional I/O port", 15 RB5 (io) "Bi-directional I/O port", 16 RB6 (io) "Bi-directional I/O port", 17 RB7 (io) "Bi-directional I/O port", 18 RC0 (io) "Bi-directional I/O port", 19 RC1 (io) "Bi-directional I/O port", 20 RC2 (io) "Bi-directional I/O port", 21 RC3 (io) "Bi-directional I/O port", 22 RC4 (io) "Bi-directional I/O port", 23 RC5 (io) "Bi-directional I/O port", 24 RC6 (io) "Bi-directional I/O port", 25 RC7 (io) "Bi-directional I/O port", 26 OSC2/CLKOUT (out), 27 OSC1/CLKIN (in), 28 ~{MCLR}/VPP (in)

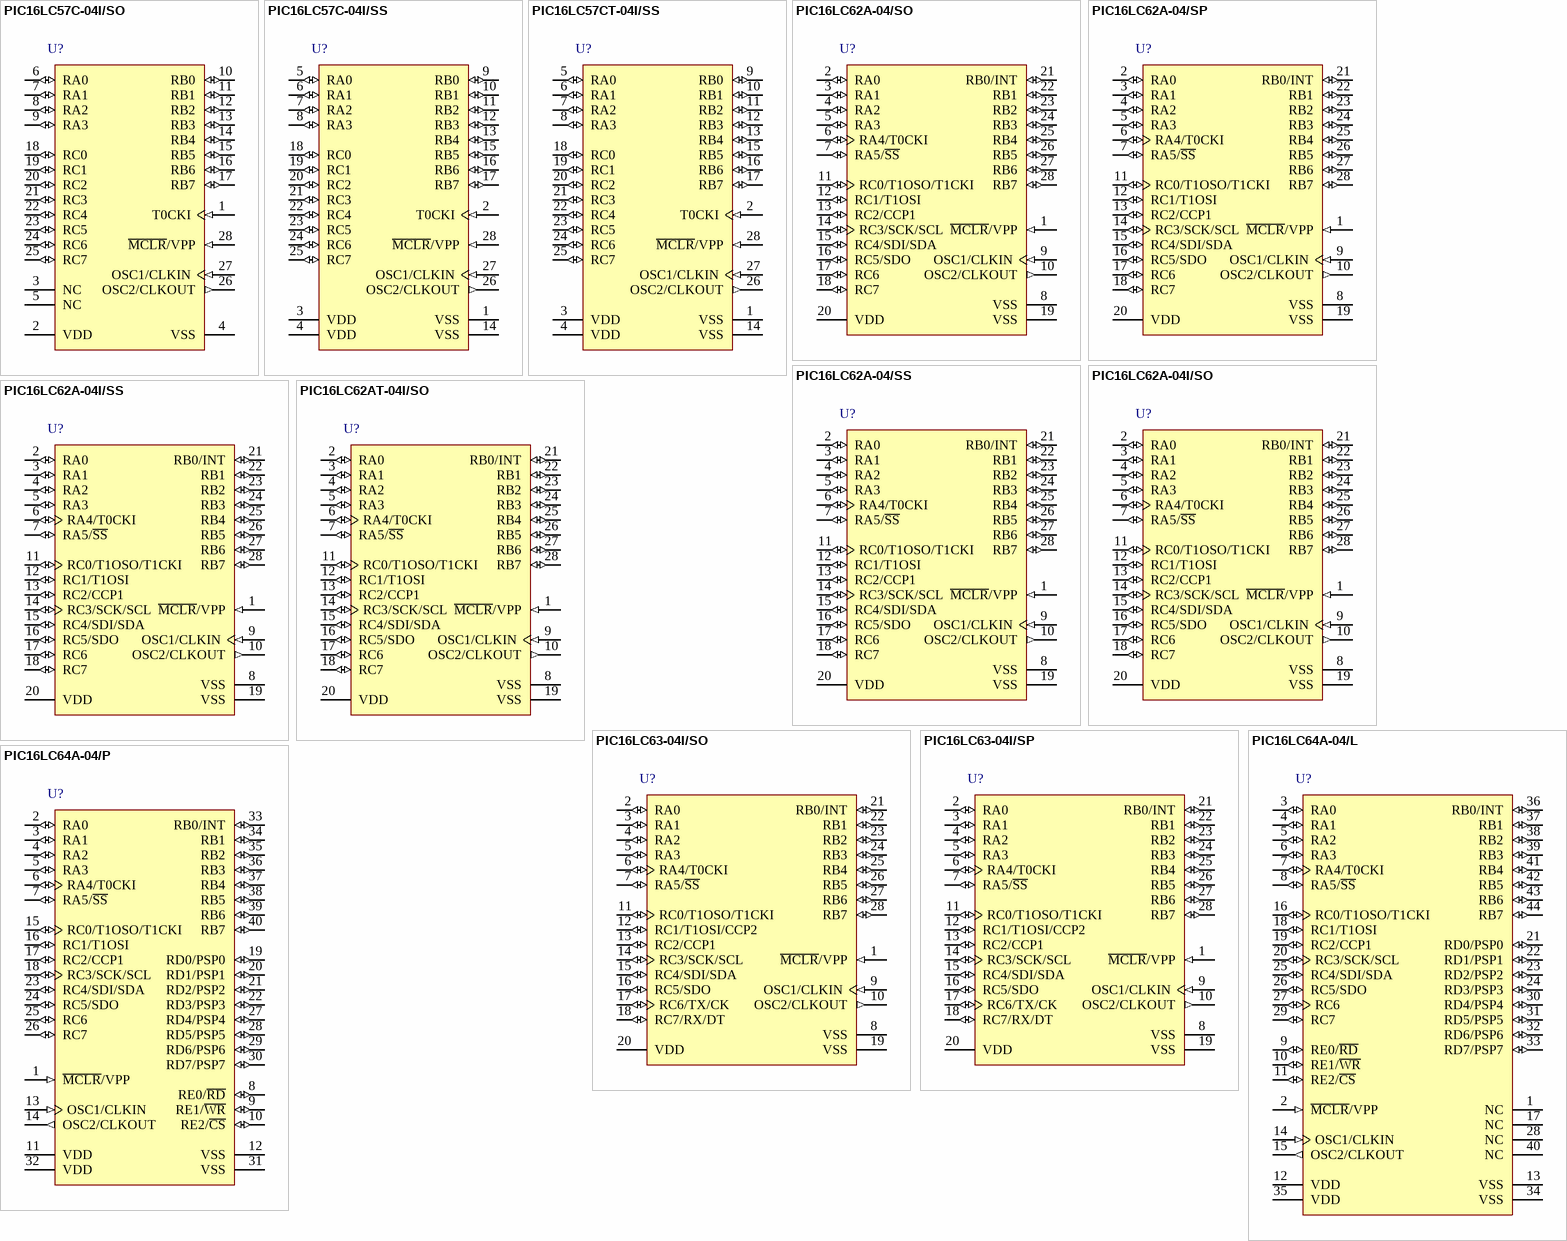
[diagram p66: symbols PIC16LC57C-04I/SO to PIC16LC64A-04/P]

## PIC16LC57C-04I/SO
designator U?
EPROM / ROM-Based 8-Bit CMOS Microcontroller Series, 4 MHz, 20 I/O, -40 to 85 degC, 28-pin SOIC (SO28), Tube; Manufacturer: Microchip; PartNumber: PIC16LC57C-04I/SO; Digital Communication: 0 -UART, 0 -A/E/USART, 0 -SPI, 0 -I2C; I/O Pins: 20; Max. CPU Speed MHz: 4; Memory Type: OTP; Operation Voltage Range: 2.5V - 5.5V; Program Memory KBytes: 3; Program Memory KWords: 2; RAM: 72; Timers: 1 - 8-bit, 0 - 16-bit, 0 - 32-bit; DatasheetVersion: Rev. KE; PackageVersion: C04-052C, 12/2012; PackageReference: SOIC-SO28; PackageDescription: 28-Lead Plastic Small Outline, 17.9 x 7.5 mm Body, 1.27 mm Pitch; Supplier 1: Digi-Key; Supplier Part Number 1: PIC16LC57C-04I/SO-ND; Supplier 2: Mouser; Supplier Part Number 2: 579-16LC57C-04I/SO; Packing: TUBE; Mounting Technology: Surface Mount; ComponentLink1Description: Datasheet; ComponentLink1URL: http://ww1.microchip.com/downloads/en/DeviceDoc/30453E.pdf; ComponentLink2Description: Package Specification; ComponentLink2URL: http://www.microchip.com/stellent/groups/techpub_sg/documents/packagingspec/en012702.pdf; ComponentLink3Description: URL Link1; ComponentLink3URL: Product URL:http://www.microchip.com/datasheet/PIC16C57C
footprint MCHP-SOIC-SO28_N (SOIC, 28-Leads, Body 17.9x7.5mm, Pitch 1.27mm, IPC Medium Density)
footprint MCHP-SOIC-SO28_L (SOIC, 28-Leads, Body 17.9x7.5mm, Pitch 1.27mm, IPC High Density)
footprint MCHP-SOIC-SO28_M (SOIC, 28-Leads, Body 17.9x7.5mm, Pitch 1.27mm, IPC Low Density)
pins: 1 T0CKI (in) "Clock input to Timer0. Must be tied to VSS or VDD, if not in use, to reduce current consumption.", 2 VDD (power) "Positive supply for logic and I/O pins.", 3 NC "Unused, do not connect.", 4 VSS (power) "Ground reference for logic and I/O pins.", 5 NC "Unused, do not connect.", 6 RA0 (io) "Bi-directional I/O port", 7 RA1 (io) "Bi-directional I/O port", 8 RA2 (io) "Bi-directional I/O port", 9 RA3 (io) "Bi-directional I/O port", 10 RB0 (io) "Bi-directional I/O port", 11 RB1 (io) "Bi-directional I/O port", 12 RB2 (io) "Bi-directional I/O port", 13 RB3 (io) "Bi-directional I/O port", 14 RB4 (io) "Bi-directional I/O port", 15 RB5 (io) "Bi-directional I/O port", 16 RB6 (io) "Bi-directional I/O port", 17 RB7 (io) "Bi-directional I/O port", 18 RC0 (io) "Bi-directional I/O port", 19 RC1 (io) "Bi-directional I/O port", 20 RC2 (io) "Bi-directional I/O port", 21 RC3 (io) "Bi-directional I/O port", 22 RC4 (io) "Bi-directional I/O port", 23 RC5 (io) "Bi-directional I/O port", 24 RC6 (io) "Bi-directional I/O port", 25 RC7 (io) "Bi-directional I/O port", 26 OSC2/CLKOUT (out), 27 OSC1/CLKIN (in), 28 ~{MCLR}/VPP (in)

## PIC16LC57C-04I/SS
designator U?
EPROM / ROM-Based 8-Bit CMOS Microcontroller Series, 4 MHz, 20 I/O, -40 to 85 degC, 28-pin SSOP-SS (28), Tube; Manufacturer: Microchip; PartNumber: PIC16LC57C-04I/SS; Digital Communication: 0 -UART, 0 -A/E/USART, 0 -SPI, 0 -I2C; I/O Pins: 20; Max. CPU Speed MHz: 4; Memory Type: OTP; Operation Voltage Range: 2.5V - 5.5V; Program Memory KBytes: 3; Program Memory KWords: 2; RAM: 72; Timers: 1 - 8-bit, 0 - 16-bit, 0 - 32-bit; DatasheetVersion: Rev. KE; PackageVersion: C04-073B, 12/2012; PackageReference: SSOP-SS28; PackageDescription: 28-Lead Plastic Shrink Small Outline, 10.2 x 5.3 mm Body, 0.65 mm Pitch; Supplier 1: Digi-Key; Supplier Part Number 1: PIC16LC57C-04I/SS-ND; Supplier 2: Mouser; Supplier Part Number 2: 579-16LC57C-04I/SS; Packing: TUBE; Mounting Technology: Surface Mount; ComponentLink1Description: Datasheet; ComponentLink1URL: http://ww1.microchip.com/downloads/en/DeviceDoc/30453E.pdf; ComponentLink2Description: Package Specification; ComponentLink2URL: http://www.microchip.com/stellent/groups/techpub_sg/documents/packagingspec/en012702.pdf; ComponentLink3Description: URL Link1; ComponentLink3URL: Product URL:http://www.microchip.com/datasheet/PIC16C57C
footprint MCHP-SSOP-SS28_N (SOP, 28-Leads, Body 10.2x5.3mm, Pitch 0.65mm, IPC Medium Density)
footprint MCHP-SSOP-SS28_L (SOP, 28-Leads, Body 10.2x5.3mm, Pitch 0.65mm, IPC High Density)
footprint MCHP-SSOP-SS28_M (SOP, 28-Leads, Body 10.2x5.3mm, Pitch 0.65mm, IPC Low Density)
pins: 1 VSS (power) "Ground reference for logic and I/O pins.", 2 T0CKI (in) "Clock input to Timer0. Must be tied to VSS or VDD, if not in use, to reduce current consumption.", 3 VDD (power) "Positive supply for logic and I/O pins.", 4 VDD (power) "Positive supply for logic and I/O pins.", 5 RA0 (io) "Bi-directional I/O port", 6 RA1 (io) "Bi-directional I/O port", 7 RA2 (io) "Bi-directional I/O port", 8 RA3 (io) "Bi-directional I/O port", 9 RB0 (io) "Bi-directional I/O port", 10 RB1 (io) "Bi-directional I/O port", 11 RB2 (io) "Bi-directional I/O port", 12 RB3 (io) "Bi-directional I/O port", 13 RB4 (io) "Bi-directional I/O port", 14 VSS (power) "Ground reference for logic and I/O pins.", 15 RB5 (io) "Bi-directional I/O port", 16 RB6 (io) "Bi-directional I/O port", 17 RB7 (io) "Bi-directional I/O port", 18 RC0 (io) "Bi-directional I/O port", 19 RC1 (io) "Bi-directional I/O port", 20 RC2 (io) "Bi-directional I/O port", 21 RC3 (io) "Bi-directional I/O port", 22 RC4 (io) "Bi-directional I/O port", 23 RC5 (io) "Bi-directional I/O port", 24 RC6 (io) "Bi-directional I/O port", 25 RC7 (io) "Bi-directional I/O port", 26 OSC2/CLKOUT (out), 27 OSC1/CLKIN (in), 28 ~{MCLR}/VPP (in)

## PIC16LC57CT-04I/SS
designator U?
EPROM / ROM-Based 8-Bit CMOS Microcontroller Series, 4 MHz, 20 I/O, -40 to 85 degC, 28-pin SSOP-SS (28), Tape and Reel; Manufacturer: Microchip; PartNumber: PIC16LC57CT-04I/SS; Digital Communication: 0 -UART, 0 -A/E/USART, 0 -SPI, 0 -I2C; I/O Pins: 20; Max. CPU Speed MHz: 4; Memory Type: OTP; Operation Voltage Range: 2.5V - 5.5V; Packing: T/R; Program Memory KBytes: 3; Program Memory KWords: 2; RAM: 72; Timers: 1 - 8-bit, 0 - 16-bit, 0 - 32-bit; DatasheetVersion: Rev. KE; PackageVersion: C04-073B, 12/2012; PackageReference: SSOP-SS28; PackageDescription: 28-Lead Plastic Shrink Small Outline, 10.2 x 5.3 mm Body, 0.65 mm Pitch; Supplier 1: Digi-Key; Supplier Part Number 1: PIC16LC57CT-04ISS-ND; Supplier 2: Mouser; Supplier Part Number 2: 579-16LC57CT-04I/SS; Mounting Technology: Surface Mount; ComponentLink1Description: Datasheet; ComponentLink1URL: http://ww1.microchip.com/downloads/en/DeviceDoc/30453E.pdf; ComponentLink2Description: Package Specification; ComponentLink2URL: http://www.microchip.com/stellent/groups/techpub_sg/documents/packagingspec/en012702.pdf; ComponentLink3Description: URL Link1; ComponentLink3URL: Product URL:http://www.microchip.com/datasheet/PIC16C57C
footprint MCHP-SSOP-SS28_N (SOP, 28-Leads, Body 10.2x5.3mm, Pitch 0.65mm, IPC Medium Density)
footprint MCHP-SSOP-SS28_L (SOP, 28-Leads, Body 10.2x5.3mm, Pitch 0.65mm, IPC High Density)
footprint MCHP-SSOP-SS28_M (SOP, 28-Leads, Body 10.2x5.3mm, Pitch 0.65mm, IPC Low Density)
pins: 1 VSS (power) "Ground reference for logic and I/O pins.", 2 T0CKI (in) "Clock input to Timer0. Must be tied to VSS or VDD, if not in use, to reduce current consumption.", 3 VDD (power) "Positive supply for logic and I/O pins.", 4 VDD (power) "Positive supply for logic and I/O pins.", 5 RA0 (io) "Bi-directional I/O port", 6 RA1 (io) "Bi-directional I/O port", 7 RA2 (io) "Bi-directional I/O port", 8 RA3 (io) "Bi-directional I/O port", 9 RB0 (io) "Bi-directional I/O port", 10 RB1 (io) "Bi-directional I/O port", 11 RB2 (io) "Bi-directional I/O port", 12 RB3 (io) "Bi-directional I/O port", 13 RB4 (io) "Bi-directional I/O port", 14 VSS (power) "Ground reference for logic and I/O pins.", 15 RB5 (io) "Bi-directional I/O port", 16 RB6 (io) "Bi-directional I/O port", 17 RB7 (io) "Bi-directional I/O port", 18 RC0 (io) "Bi-directional I/O port", 19 RC1 (io) "Bi-directional I/O port", 20 RC2 (io) "Bi-directional I/O port", 21 RC3 (io) "Bi-directional I/O port", 22 RC4 (io) "Bi-directional I/O port", 23 RC5 (io) "Bi-directional I/O port", 24 RC6 (io) "Bi-directional I/O port", 25 RC7 (io) "Bi-directional I/O port", 26 OSC2/CLKOUT (out), 27 OSC1/CLKIN (in), 28 ~{MCLR}/VPP (in)